# Altium schematic symbol library LT3992.Schlib: 1 symbol
Pins are listed as number, name and electrical type; pins without a type are passive.

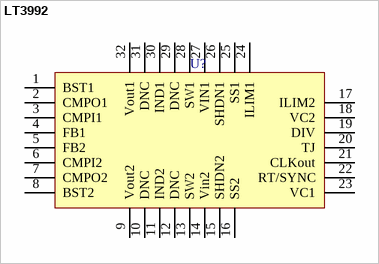
[diagram p0: symbol LT3992]

## LT3992
designator U?
pins: 1 BST1, 2 CMPO1, 3 CMPI1, 4 FB1, 5 FB2, 6 CMPI2, 7 CMPO2, 8 BST2, 9 Vout2, 10 DNC, 11 IND2, 12 DNC, 13 SW2, 14 Vin2, 15 SHDN2, 16 SS2, 17 ILIM2, 18 VC2, 19 DIV, 20 TJ, 21 CLKout, 22 RT/SYNC, 23 VC1, 24 ILIM1, 25 SS1, 26 SHDN1, 27 VIN1, 28 SW1, 29 DNC, 30 IND1, 31 DNC, 32 Vout1
1 alternate drawing of the same symbol